# Altium footprint library IMX6PCBlib.PcbLib: 72 footprints (part 5 of 5)
Each footprint in its own frame and in the unit in brackets; x right, y up, seen from the top. Pads: shape width x height; smd on the part's side, far side on the other; paste and mask are expansions set on the pad; w line width, h text height; cw(c..) or ccw(c..) is an arc to the next point about the centre after c.
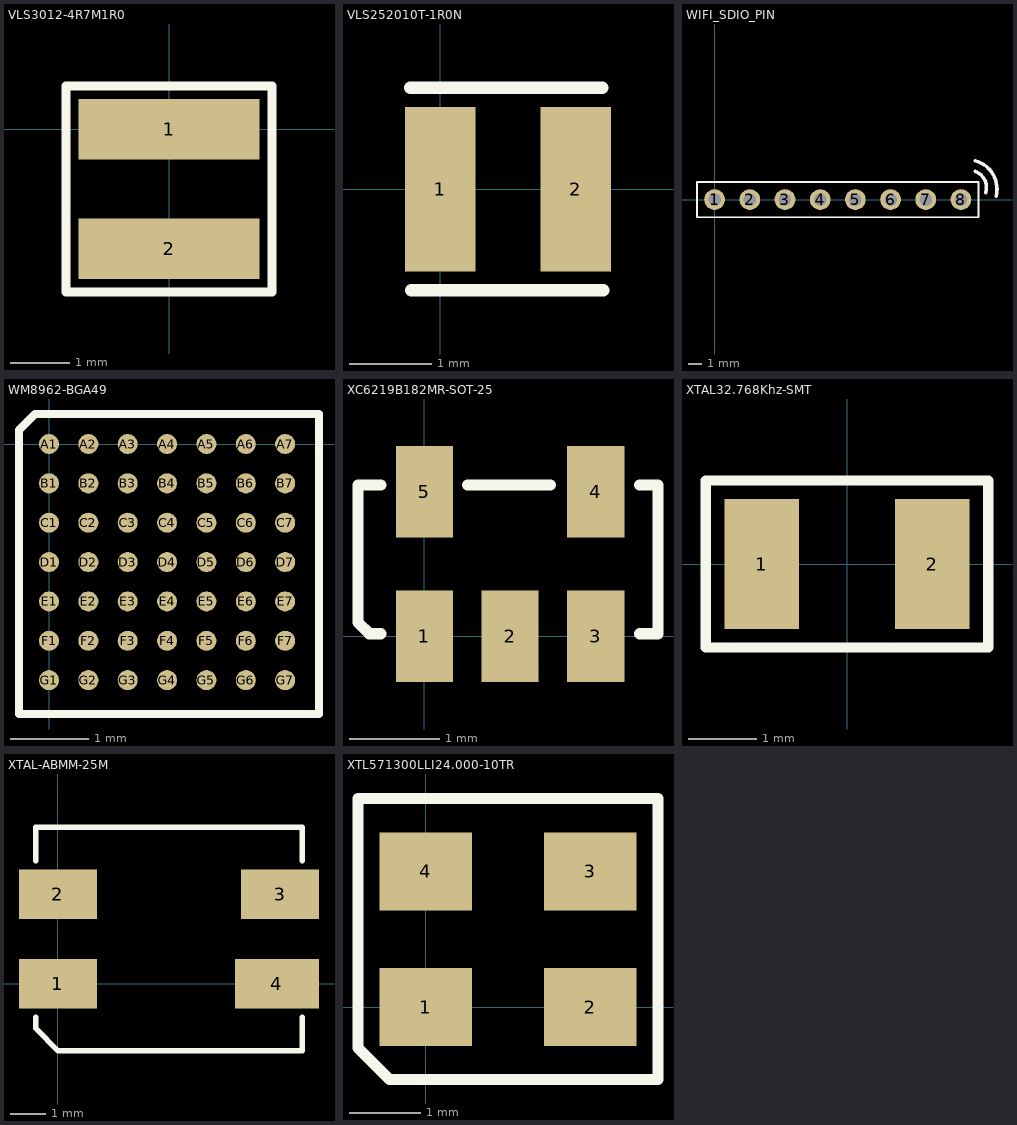
[diagram p4: the footprints below, top view; thin cyan lines are the x and y axes]

## VLS3012-4R7M1R0 [mil]
pads (2):
  rect 119x40 smd: 1(0,0) 2(0,-78.74)
Top Overlay:
  lines w6: -68.02,-107.39 68.02,-107.39 68.02,28.65 -68.02,28.65 -68.02,-107.39

## VLS252010T-1R0N [mil]
pads (2):
  rect 34x79 smd: 1(0,0) 2(64.96,0)
Top Overlay:
  lines w5.98: -14.32,48.61 77.79,48.61 ; -13.93,-48.51 78.18,-48.51

## WIFI_SDIO_PIN [mil]
pads (8):
  round 59 hole 35.43: 1(0,0) 2(100,0) 3(200,0) 4(300,0) 5(400,0) 6(500,0) 7(600,0) 8(700,0)
Top Overlay:
  lines w5: -50,-50 750,-50 750,50 -50,50 -50,-50
  lines w10: 740,80 cw(c725,35) 770,20 ; 740,110 cw(c720,30) 800,10

## WM8962-BGA49 [mil]
pads (49):
  round 10 smd: A1(0,0) A2(19.68,0) A3(39.36,0) A4(59.04,0) A5(78.72,0) A6(98.4,0) A7(118.08,0) B1(0,-19.68) B2(19.68,-19.68) B3(39.36,-19.68) B4(59.04,-19.68) B5(78.72,-19.68) B6(98.4,-19.68) B7(118.08,-19.68) C1(0,-39.36) C2(19.68,-39.36) C3(39.36,-39.36) C4(59.04,-39.36) C5(78.72,-39.36) C6(98.4,-39.36) C7(118.08,-39.36) D1(0,-59.04) D2(19.68,-59.04) D3(39.36,-59.04) D4(59.04,-59.04) D5(78.72,-59.04) D6(98.4,-59.04) D7(118.08,-59.04) E1(0,-78.72) E2(19.68,-78.72) E3(39.36,-78.72) E4(59.04,-78.72) E5(78.72,-78.72) E6(98.4,-78.72) E7(118.08,-78.72) F1(0,-98.4) F2(19.68,-98.4) F3(39.36,-98.4) F4(59.04,-98.4) F5(78.72,-98.4) F6(98.4,-98.4) F7(118.08,-98.4) G1(0,-118.08) G2(19.68,-118.08) G3(39.36,-118.08) G4(59.04,-118.08) G5(78.72,-118.08) G6(98.4,-118.08) G7(118.08,-118.08)
Top Overlay:
  lines w3.94: -15,7 -15,-135 135,-135 135,15 -7,15 ; -15,7 -7,15 ; -15,7 -7,15

## XC6219B182MR-SOT-25 [mil]
pads (5):
  rect 25x40 smd: 1(0,0) 2(37.4,0) 3(74.8,0) 4(74.8,63) 5(0,63)
Top Overlay:
  lines w5: -19,1 -24,1 -29,6 -29,66 -19,66 ; 19,66 55,66 ; 94,1 102,1 102,66 94,66

## XTAL32.768Khz-SMT [mil]
pads (2):
  rect 43x75 smd: 1(-49.21,0.02) 2(49.21,0.02)
Top Overlay:
  lines w5.98: -81.69,-48.21 81.69,-48.21 81.69,48.25 -81.69,48.25 -81.69,11.83 -81.69,-48.21

## XTAL-ABMM-25M [mil]
pads (4):
  rect 87x55 smd: 1(0,0) 2(0,100) 3(248.04,100)
  rect 94x55 smd: 4(244.54,0)
Top Overlay:
  lines w6: -24.75,-37.5 -24.75,-50 0.25,-75 272.71,-75 272.71,-37.56 ; -24.75,137.5 -24.75,175 272.71,175 272.71,137.5

## XTL571300LLI24.000-10TR [mil]
pads (4):
  rect 51x43 smd: 1(0,0) 2(90.56,0) 3(90.56,74.8) 4(0,74.8)
Top Overlay:
  lines w5.98: -37.4,60.63 -37.4,-22.6 -20,-40 127.96,-40 127.96,115 -37.4,115 -37.4,61.02